# Altium schematic symbol library Res_Bourns_CR0603-FX-4420ELF_442Ohm.SchLib: 1 symbol
Pins are listed as number, name and electrical type; pins without a type are passive.

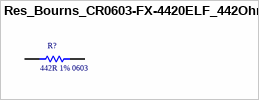
[diagram p0: symbol Res_Bourns_CR0603-FX-4420ELF_442Ohm]

## Res_Bourns_CR0603-FX-4420ELF_442Ohm
designator R?  Resistance: 442R 1% 0603  (hidden comment: *)
RES SMD 442 OHM 1% 1/10W 0603; Supplier Part Number 1: 652-CR0603FX-4420ELF; Supplier 1: Mouser
footprint Res_Bourns_CR0603-FX-4420ELF_442Ohm
pins: 1, 2